# Altium schematic symbol library LT4322_sync_rectif.SchLib: 1 symbol
Pins are listed as number, name and electrical type; pins without a type are passive.

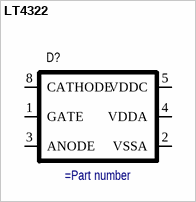
[diagram p0: symbol LT4322]

## LT4322
designator D?
pins: 1 GATE, 2 VSSA, 3 ANODE, 4 VDDA, 5 VDDC, 8 CATHODE